# Altium footprint library MPU6050.PcbLib: 2 footprints
Each footprint in its own frame and in the unit in brackets; x right, y up, seen from the top. Pads: shape width x height; smd on the part's side, far side on the other; paste and mask are expansions set on the pad; w line width, h text height; cw(c..) or ccw(c..) is an arc to the next point about the centre after c.
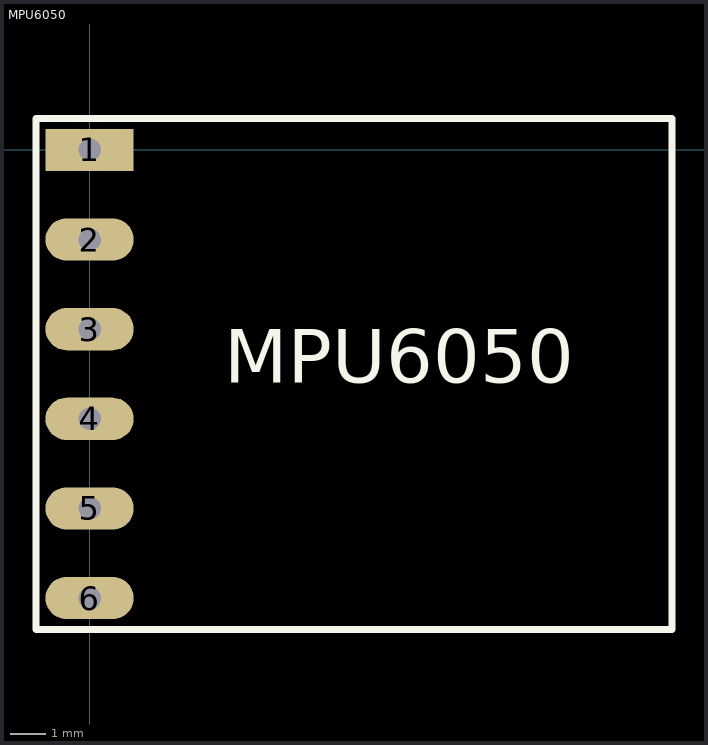
[diagram p0: the footprints below, top view; thin cyan lines are the x and y axes]

## MPU6050 [mm]
pads (6):
  rect 2.5x1.2 hole 0.64: 1(0,0)
  oval 2.5x1.2 hole 0.64: 2(0,-2.54) 3(0,-5.08) 4(0,-7.62) 5(0,-10.16) 6(0,-12.7)
Top Overlay:
  lines w0.2: -1.524,-13.589 16.51,-13.589 16.51,0.889 -1.524,0.889 -1.524,-13.589
  text "MPU6050" at 3.812,-6.604 h1.52

## PCBComponent_1 [mm]